# Altium footprint library Footprints.PcbLib: 17 footprints (part 2 of 2)
Each footprint in its own frame and in the unit in brackets; x right, y up, seen from the top. Pads: shape width x height; smd on the part's side, far side on the other; paste and mask are expansions set on the pad; w line width, h text height; cw(c..) or ccw(c..) is an arc to the next point about the centre after c.
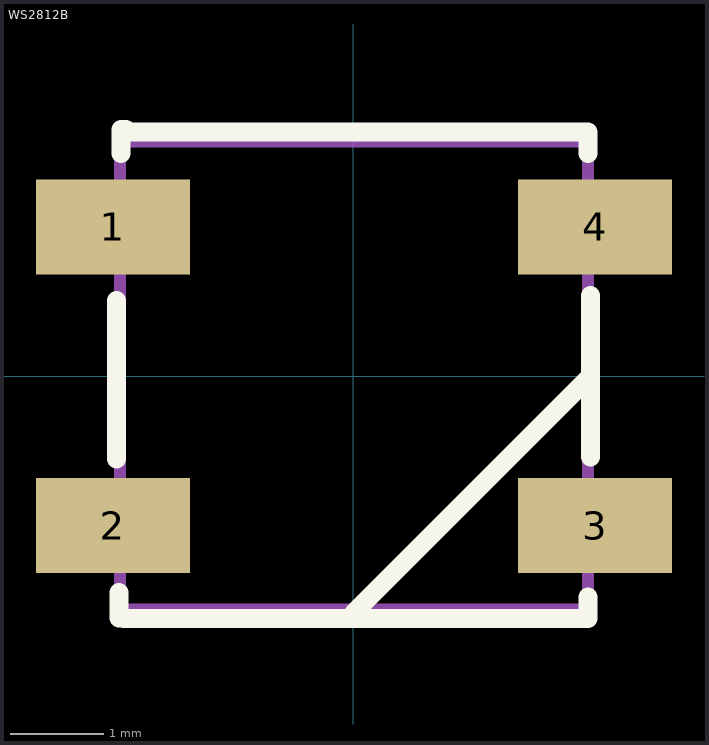
[diagram p1: the footprint, top view; thin cyan lines are the x and y axes]

## WS2812B [mil]
pads (4):
  rect 65x40 smd: 1(-101.46,63) 2(-101.46,-62.99) 3(102,-62.99) 4(102,63)
Top Overlay:
  lines w8: -100,-35 -100,32 ; -98.8,-91.3 -98.8,-102 -96.8,-102 -96.8,-102.1 99,-102.1 99,-93.2 ; -98,94 -98,104 -96,104 -96,103 99,103 99,94 ; 0,-100 100,0 ; 100,-34 100,0 ; 100,34 100,0
Mechanical 16:
  lines w5: -98.43,-98.43 99,-98.43 99,99 -98.43,99 -98.43,-98.43
3D body: height 59.06, standoff -7.87, extent -105.32,-97.45 105.31,97.43